# Altium footprint library UltraZohm_Digital_BreakoutBoard.PcbLib: 6 footprints
Each footprint in its own frame and in the unit in brackets; x right, y up, seen from the top. Pads: shape width x height; smd on the part's side, far side on the other; paste and mask are expansions set on the pad; w line width, h text height; cw(c..) or ccw(c..) is an arc to the next point about the centre after c.
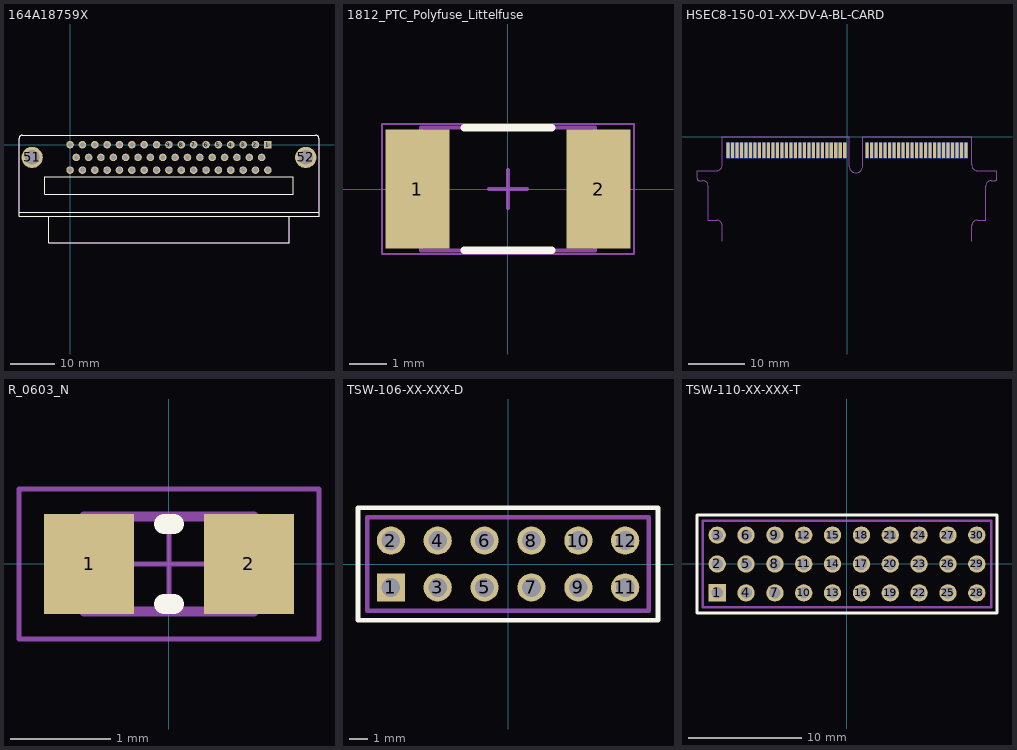
[diagram p0: the footprints below, top view; thin cyan lines are the x and y axes]

## 164A18759X [mm]
pads (52):
  rect 1.69x1.69 hole 1.09: 1(44.176,0)
  round 1.69 hole 1.09: 2(41.415,0) 3(38.654,0) 4(35.893,0) 5(33.132,0) 6(30.371,0) 7(27.61,0) 8(24.849,0) 9(22.088,0) 10(19.327,0) 11(16.566,0) 12(13.805,0) 13(11.044,0) 14(8.283,0) 15(5.522,0) 16(2.761,0) 17(0,0) 18(42.795,-2.84) 19(40.034,-2.84) 20(37.273,-2.84) 21(34.512,-2.84) 22(31.751,-2.84) 23(28.99,-2.84) 24(26.23,-2.84) 25(23.469,-2.84) 26(20.707,-2.84) 27(17.946,-2.84) 28(15.185,-2.84) 29(12.424,-2.84) 30(9.664,-2.84) 31(6.903,-2.84) 32(4.142,-2.84) 33(1.381,-2.84) 34(44.176,-5.68) 35(41.415,-5.68) 36(38.654,-5.68) 37(35.893,-5.68) 38(33.132,-5.68) 39(30.371,-5.68) 40(27.61,-5.68) 41(24.849,-5.68) 42(22.088,-5.68) 43(19.327,-5.68) 44(16.566,-5.68) 45(13.805,-5.68) 46(11.044,-5.68) 47(8.283,-5.68) 48(5.522,-5.68) 49(2.761,-5.68) 50(0,-5.68)
  round 4.76 hole 3.26: 51(-8.467,-2.84) 52(52.643,-2.84)
Top Overlay:
  lines w0.2: -11.4,-15.08 55.6,-15.08 ; -11.4,1.42 -11.4,-15.98 55.6,-15.98 55.6,1.42 ; -11.395,1.425 cw(c-10.7,1.425) -10.7,2.12 54.9,2.12 cw(c54.9,1.425) 55.595,1.425 ; -4.78,-15.98 -4.78,-21.9 48.98,-21.9 48.98,-15.98 ; -5.6,-11.1 49.8,-11.1 49.8,-7.1 -5.6,-7.1 -5.6,-11.1
Mechanical 5:
  lines w0.2: -11.4,1.42 -11.4,-15.98 55.6,-15.98 55.6,1.42 ; -11.395,1.425 cw(c-10.7,1.425) -10.7,2.12 54.9,2.12 cw(c54.9,1.425) 55.595,1.425 ; -4.78,-15.98 -4.78,-21.9 48.98,-21.9 48.98,-15.98
  text ".Designator" at 20.158,-7.721 h1.52
3D body "164A18759X.stp": height 16.35, standoff -3.86, extent -11.425,-22.048 55.575,2.132

## 1812_PTC_Polyfuse_Littelfuse [mm] "Chip Fuse, 2-Leads, Body 4.6x3.24mm"
height 1.6
pads (2):
  rect 1.68x3.14 smd: 1(-2.39,0) 2(2.39,0)
Top Overlay:
  lines w0.2: -1.15,-1.62 1.15,-1.62 ; -1.15,1.62 1.15,1.62
Mechanical 5:
  lines w0.1: -2.3,-1.62 2.3,-1.62 2.3,1.62 -2.3,1.62 -2.3,-1.62
  text ".Designator" at -0.901,-0.725 h1.52
Mechanical 15:
  lines w0.05: -3.33,-1.72 -3.33,1.72 3.33,1.72 3.33,-1.72 -3.33,-1.72
  lines w0.1: -0.5,0 0.5,0 ; 0,-0.5 0,0.5
3D body "mf-msmf110_24x.stp": height 1.15, standoff 0, extent -2.3,-1.62 2.3,1.62

## HSEC8-150-01-XX-DV-A-BL-CARD [mm]
pads (100):
  rect 0.55x2.8 smd far side mask+0.05: 1(-21.2,-2.4) 3(-20.4,-2.4) 5(-19.6,-2.4) 7(-18.8,-2.4) 9(-18,-2.4) 11(-17.2,-2.4) 13(-16.4,-2.4) 15(-15.6,-2.4) 17(-14.8,-2.4) 19(-14,-2.4) 21(-13.2,-2.4) 23(-12.4,-2.4) 25(-11.6,-2.4) 27(-10.8,-2.4) 29(-10,-2.4) 31(-9.2,-2.4) 33(-8.4,-2.4) 35(-7.6,-2.4) 37(-6.8,-2.4) 39(-6,-2.4) 41(-5.2,-2.4) 43(-4.4,-2.4) 45(-3.6,-2.4) 47(-2.8,-2.4) 49(-2,-2.4) 51(-1.2,-2.4) 53(-0.4,-2.4) 55(3.6,-2.4) 57(4.4,-2.4) 59(5.2,-2.4) 61(6,-2.4) 63(6.8,-2.4) 65(7.6,-2.4) 67(8.4,-2.4) 69(9.2,-2.4) 71(10,-2.4) 73(10.8,-2.4) 75(11.6,-2.4) 77(12.4,-2.4) 79(13.2,-2.4) 81(14,-2.4) 83(14.8,-2.4) 85(15.6,-2.4) 87(16.4,-2.4) 89(17.2,-2.4) 91(18,-2.4) 93(18.8,-2.4) 95(19.6,-2.4) 97(20.4,-2.4) 99(21.2,-2.4)
  rect 0.55x2.8 smd mask+0.05: 2(-21.2,-2.4) 4(-20.4,-2.4) 6(-19.6,-2.4) 8(-18.8,-2.4) 10(-18,-2.4) 12(-17.2,-2.4) 14(-16.4,-2.4) 16(-15.6,-2.4) 18(-14.8,-2.4) 20(-14,-2.4) 22(-13.2,-2.4) 24(-12.4,-2.4) 26(-11.6,-2.4) 28(-10.8,-2.4) 30(-10,-2.4) 32(-9.2,-2.4) 34(-8.4,-2.4) 36(-7.6,-2.4) 38(-6.8,-2.4) 40(-6,-2.4) 42(-5.2,-2.4) 44(-4.4,-2.4) 46(-3.6,-2.4) 48(-2.8,-2.4) 50(-2,-2.4) 52(-1.2,-2.4) 54(-0.4,-2.4) 56(3.6,-2.4) 58(4.4,-2.4) 60(5.2,-2.4) 62(6,-2.4) 64(6.8,-2.4) 66(7.6,-2.4) 68(8.4,-2.4) 70(9.2,-2.4) 72(10,-2.4) 74(10.8,-2.4) 76(11.6,-2.4) 78(12.4,-2.4) 80(13.2,-2.4) 82(14,-2.4) 84(14.8,-2.4) 86(15.6,-2.4) 88(16.4,-2.4) 90(17.2,-2.4) 92(18,-2.4) 94(18.8,-2.4) 96(19.6,-2.4) 98(20.4,-2.4) 100(21.2,-2.4)
Mechanical 1:
  lines w0.025: -22.225,-18.566 -22.225,-15.84 ccw(c-23.225,-15.84) -23.225,-14.84 -24.725,-14.84 -24.725,-8.78 ccw(c-25.725,-8.78) -25.725,-7.78 -26.325,-7.78 cw(c-26.325,-7.38) -26.725,-7.38 -26.725,-6 -23.225,-6 ccw(c-23.225,-5) -22.225,-5 -22.225,-0.779 -22.225,0 0.4,0 0.4,-0.779 0.4,-5.2 ccw(c1.6,-5.2) 2.8,-5.2 2.8,-0.779 2.8,0 22.225,0 22.225,-0.779 22.225,-5 ccw(c23.225,-5) 23.225,-6 26.725,-6 26.725,-7.38 cw(c26.325,-7.38) 26.325,-7.78 25.725,-7.78 ccw(c25.725,-8.78) 24.725,-8.78 24.725,-14.84 23.225,-14.84 ccw(c23.225,-15.84) 22.225,-15.84 22.225,-18.566

## R_0603_N [mm] "SMD Resistor, Body 1.6x0.8mm, IPC Medium Density"
height 0.6
pads (2):
  rect 0.9x1 smd: 1(-0.8,0) 2(0.8,0)
Top Overlay:
  lines w0.2: -0.05,-0.4 0.05,-0.4 ; -0.05,0.4 0.05,0.4
Mechanical 5:
  lines w0.1: -0.85,-0.475 0.85,-0.475 0.85,0.475 -0.85,0.475 -0.85,-0.475
  text ".Designator" at -1,0.8 h0.76
Mechanical 15:
  lines w0.05: -0.475,0 0.475,0 ; 0,-0.475 0,0.475 ; -1.5,-0.75 1.5,-0.75 1.5,0.75 -1.5,0.75 -1.5,-0.75
3D body: height 0.6, standoff 0, extent -0.849,-0.474 -0.58,0.475
3D body: height 0.6, standoff 0, extent -0.58,-0.474 0.581,0.475
3D body: height 0.6, standoff 0, extent 0.581,-0.474 0.85,0.475

## TSW-106-XX-XXX-D [mil] "Pinheader, 2.54mm Pitch"
pads (12):
  rect 60x60 hole 40 mask+3: 1(-250,-50)
  round 60 hole 40 mask+3: 2(-250,50) 3(-150,-50) 4(-150,50) 5(-50,-50) 6(-50,50) 7(50,-50) 8(50,50) 9(150,-50) 10(150,50) 11(250,-50) 12(250,50)
Top Overlay:
  lines w10: -320,-120 320,-120 320,120 -320,120 -320,-120
Mechanical 5:
  lines w10: -300,-100 300,-100 300,100 -300,100 -300,-100
  text ".Designator" at 5.43,-20 h30
3D body "TSW-106-07-F-D.stp": height 330, standoff -100, extent -300,-100 300,100

## TSW-110-XX-XXX-T [mil] "Pinheader, 2.54mm Pitch"
pads (30):
  rect 60x60 hole 40 mask+3: 1(-450,-100)
  round 60 hole 40 mask+3: 2(-450,0) 3(-450,100) 4(-350,-100) 5(-350,0) 6(-350,100) 7(-250,-100) 8(-250,0) 9(-250,100) 10(-150,-100) 11(-150,0) 12(-150,100) 13(-50,-100) 14(-50,0) 15(-50,100) 16(50,-100) 17(50,0) 18(50,100) 19(150,-100) 20(150,0) 21(150,100) 22(250,-100) 23(250,0) 24(250,100) 25(350,-100) 26(350,0) 27(350,100) 28(450,-100) 29(450,0) 30(450,100)
Top Overlay:
  lines w10: -520,-170 -520,170 520,170 520,-170 -520,-170
Mechanical 5:
  lines w10: -500,-150 500,-150 500,150 -500,150 -500,-150
  text ".Designator" at 5.43,-20 h30
3D body "TSW-110-07-F-T.stp": height 330, standoff -100, extent -500,-150 500,150